# EAGLE library part ATTINY10 (library Eric Navarrete Custom Parts Feb 2019)
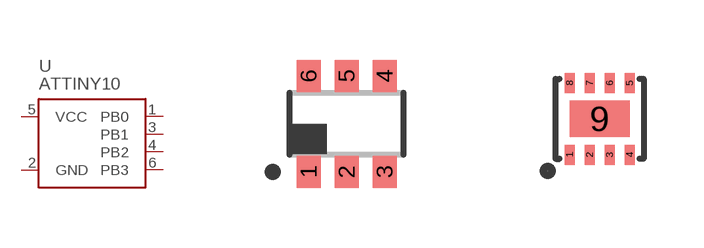
[diagram p34: symbol with the pads of SOT23-6; footprints SOT23-6, USON8_2X2MM_0.5MMP]

Designator prefix U

## ATTINY10  [SOT23-6]
1  PB0
2  GND
3  PB1
4  PB2
5  VCC
6  PB3

## ATTINY10USON8_2X2MM_0.5MMP  [USON8_2X2MM_0.5MMP]
1  PB1
4  GND
5  PB0
6  PB3
7  VCC
8  PB2
9  GND

## Footprint SOT23-6 (pad centres in mm)
battery protection IC 6 lead, 3 on botton are smaller (type A )
smd 0.6 x 0.8: 1 -0.95,-1.2; 2 0,-1.2; 3 0.95,-1.2; 4 0.95,1.2; 5 0,1.2; 6 -0.95,1.2

## Footprint USON8_2X2MM_0.5MMP (pad centres in mm)
smd 0.25 x 0.5: 1 -0.75,-0.9; 2 -0.25,-0.9; 3 0.25,-0.9; 4 0.75,-0.9; 5 0.75,0.9; 6 0.25,0.9; 7 -0.25,0.9; 8 -0.75,0.9
smd 1.5 x 0.9: 9 0,0